# Altium integrated library Inverter_1KW.IntLib: 8 symbols
Pins are listed as number, name and electrical type; pins without a type are passive.

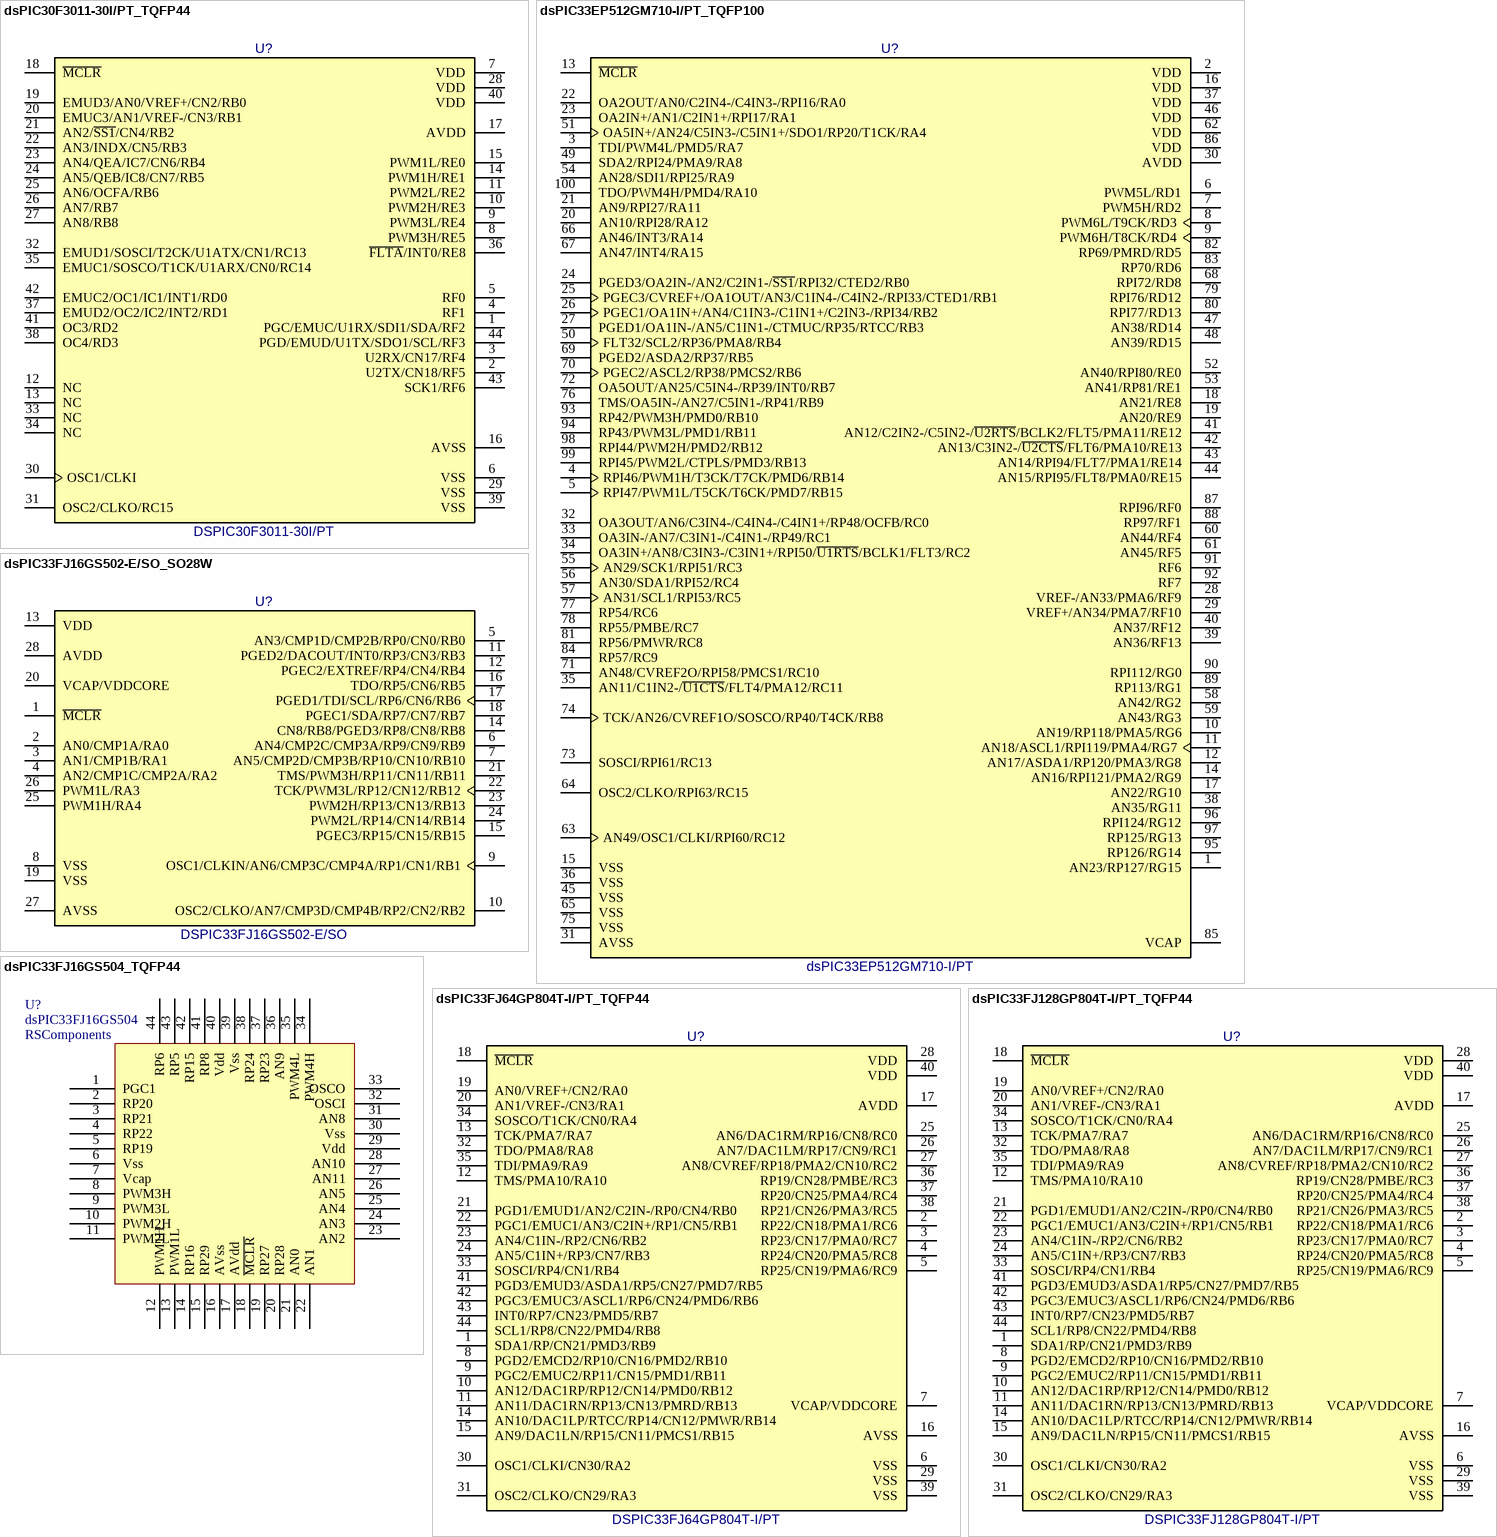
[diagram p0: symbols dsPIC30F3011-30I/PT_TQFP44 to dsPIC33FJ128GP804T-I/PT_TQFP44]

## dsPIC30F3011-30I/PT_TQFP44
designator U?, comment DSPIC30F3011-30I/PT
IC 16-bit Digital Signal Controller; Manufacturer: Microchip; Package: TQFP44-10x10; EDM-PN: *; Text2: *; Text1: *; Value: DSPIC30F3011-30I/PT; Reutech PN: *; Part Number: DSPIC30F3011-30I/PT
footprint TQFP44-10x10 (TQFP, 44-Leads, Body 10.0x10.0mm, Pitch 0.80mm, IPC Medium Density)
pins: 1 PGC/EMUC/U1RX/SDI1/SDA/RF2, 2 U2TX/CN18/RF5, 3 U2RX/CN17/RF4, 4 RF1, 5 RF0, 6 VSS (power), 7 VDD (power), 8 PWM3H/RE5, 9 PWM3L/RE4, 10 PWM2H/RE3, 11 PWM2L/RE2, 12 NC, 13 NC, 14 PWM1H/RE1, 15 PWM1L/RE0, 16 AVSS (power), 17 AVDD (power), 18 ~{MCLR}, 19 EMUD3/AN0/VREF+/CN2/RB0, 20 EMUC3/AN1/VREF-/CN3/RB1, 21 AN2/~{SS1}/CN4/RB2, 22 AN3/INDX/CN5/RB3, 23 AN4/QEA/IC7/CN6/RB4, 24 AN5/QEB/IC8/CN7/RB5, 25 AN6/OCFA/RB6, 26 AN7/RB7, 27 AN8/RB8, 28 VDD (power), 29 VSS (power), 30 OSC1/CLKI, 31 OSC2/CLKO/RC15, 32 EMUD1/SOSCI/T2CK/U1ATX/CN1/RC13, 33 NC, 34 NC, 35 EMUC1/SOSCO/T1CK/U1ARX/CN0/RC14, 36 ~{FLTA}/INT0/RE8, 37 EMUD2/OC2/IC2/INT2/RD1, 38 OC4/RD3, 39 VSS (power), 40 VDD (power), 41 OC3/RD2, 42 EMUC2/OC1/IC1/INT1/RD0, 43 SCK1/RF6, 44 PGD/EMUD/U1TX/SDO1/SCL/RF3

## dsPIC33EP512GM710-I/PT_TQFP100
designator U?, comment dsPIC33EP512GM710-I/PT
IC Microcontroller 32-Bit; Manufacturer: Microchip; Package: TQFP100-12x12; EDM-PN: *; Text2: *; Text1: *; Value: dsPIC33EP512GM710-I/PT; Reutech PN: *; Part Number: dsPIC33EP512GM710-I/PT
footprint TQFP100-12x12 (TQFP100 12.0x12.0mm)
pins: 1 AN23/RP127/RG15, 2 VDD (power) "Positive supply for peripheral logic and I/O pins.", 3 TDI/PWM4L/PMD5/RA7, 4 RPI46/PWM1H/T3CK/T7CK/PMD6/RB14, 5 RPI47/PWM1L/T5CK/T6CK/PMD7/RB15, 6 PWM5L/RD1, 7 PWM5H/RD2, 8 PWM6L/T9CK/RD3, 9 PWM6H/T8CK/RD4, 10 AN19/RP118/PMA5/RG6, 11 AN18/ASCL1/RPI119/PMA4/RG7, 12 AN17/ASDA1/RP120/PMA3/RG8, 13 ~{MCLR} "Master Clear (Reset) input. This pin is an active-low Reset to the device.", 14 AN16/RPI121/PMA2/RG9, 15 VSS (power) "Ground reference for logic and I/O pins.", 16 VDD (power) "Positive supply for peripheral logic and I/O pins.", 17 AN22/RG10, 18 AN21/RE8, 19 AN20/RE9, 20 AN10/RPI28/RA12, 21 AN9/RPI27/RA11, 22 OA2OUT/AN0/C2IN4-/C4IN3-/RPI16/RA0, 23 OA2IN+/AN1/C2IN1+/RPI17/RA1, 24 PGED3/OA2IN-/AN2/C2IN1-/~{SS1}/RPI32/CTED2/RB0, 25 PGEC3/CVREF+/OA1OUT/AN3/C1IN4-/C4IN2-/RPI33/CTED1/RB1, 26 PGEC1/OA1IN+/AN4/C1IN3-/C1IN1+/C2IN3-/RPI34/RB2, 27 PGED1/OA1IN-/AN5/C1IN1-/CTMUC/RP35/RTCC/RB3, 28 VREF-/AN33/PMA6/RF9, 29 VREF+/AN34/PMA7/RF10, 30 AVDD (power) "Positive supply for analog modules. This pin must be connected at all times.", 31 AVSS (power) "Ground reference for analog modules.", 32 OA3OUT/AN6/C3IN4-/C4IN4-/C4IN1+/RP48/OCFB/RC0, 33 OA3IN-/AN7/C3IN1-/C4IN1-/RP49/RC1, 34 OA3IN+/AN8/C3IN3-/C3IN1+/RPI50/~{U1RTS}/BCLK1/FLT3/RC2, 35 AN11/C1IN2-/~{U1CTS}/FLT4/PMA12/RC11, 36 VSS (power) "Ground reference for logic and I/O pins.", 37 VDD (power) "Positive supply for peripheral logic and I/O pins.", 38 AN35/RG11, 39 AN36/RF13, 40 AN37/RF12, 41 AN12/C2IN2-/C5IN2-/~{U2RTS}/BCLK2/FLT5/PMA11/RE12, 42 AN13/C3IN2-/~{U2CTS}/FLT6/PMA10/RE13, 43 AN14/RPI94/FLT7/PMA1/RE14, 44 AN15/RPI95/FLT8/PMA0/RE15, 45 VSS (power) "Ground reference for logic and I/O pins.", 46 VDD (power) "Positive supply for peripheral logic and I/O pins.", 47 AN38/RD14, 48 AN39/RD15, 49 SDA2/RPI24/PMA9/RA8, 50 FLT32/SCL2/RP36/PMA8/RB4, 51 OA5IN+/AN24/C5IN3-/C5IN1+/SDO1/RP20/T1CK/RA4, 52 AN40/RPI80/RE0, 53 AN41/RP81/RE1, 54 AN28/SDI1/RPI25/RA9, 55 AN29/SCK1/RPI51/RC3, 56 AN30/SDA1/RPI52/RC4, 57 AN31/SCL1/RPI53/RC5, 58 AN42/RG2, 59 AN43/RG3, 60 AN44/RF4, 61 AN45/RF5, 62 VDD (power) "Positive supply for peripheral logic and I/O pins.", 63 AN49/OSC1/CLKI/RPI60/RC12, 64 OSC2/CLKO/RPI63/RC15, 65 VSS (power) "Ground reference for logic and I/O pins.", 66 AN46/INT3/RA14, 67 AN47/INT4/RA15, 68 RPI72/RD8, 69 PGED2/ASDA2/RP37/RB5, 70 PGEC2/ASCL2/RP38/PMCS2/RB6, 71 AN48/CVREF2O/RPI58/PMCS1/RC10, 72 OA5OUT/AN25/C5IN4-/RP39/INT0/RB7, 73 SOSCI/RPI61/RC13, 74 TCK/AN26/CVREF1O/SOSCO/RP40/T4CK/RB8, 75 VSS (power) "Ground reference for logic and I/O pins.", 76 TMS/OA5IN-/AN27/C5IN1-/RP41/RB9, 77 RP54/RC6, 78 RP55/PMBE/RC7, 79 RPI76/RD12, 80 RPI77/RD13, 81 RP56/PMWR/RC8, 82 RP69/PMRD/RD5, 83 RP70/RD6, 84 RP57/RC9, 85 VCAP "CPU logic filter capacitor connection.", 86 VDD (power) "Positive supply for peripheral logic and I/O pins.", 87 RPI96/RF0, 88 RP97/RF1, 89 RP113/RG1, 90 RPI112/RG0, 91 RF6 "PORTF is a bidirectional I/O port.", 92 RF7 "PORTF is a bidirectional I/O port.", 93 RP42/PWM3H/PMD0/RB10, 94 RP43/PWM3L/PMD1/RB11, 95 RP126/RG14, 96 RPI124/RG12, 97 RP125/RG13, 98 RPI44/PWM2H/PMD2/RB12, 99 RPI45/PWM2L/CTPLS/PMD3/RB13, 100 TDO/PWM4H/PMD4/RA10

## dsPIC33FJ16GS502-E/SO_SO28W
designator U?, comment DSPIC33FJ16GS502-E/SO
IC 16-bit Digital Signal Controller; Manufacturer: Microchip; Package: SO28W; EDM-PN: *; Text2: *; Text1: *; Value: DSPIC33FJ16GS502-E/SO; Reutech PN: *; Part Number: DSPIC33FJ16GS502-E/SO
footprint SO28W (SO28 7.47x17.87mm)
pins: 1 ~{MCLR}, 2 AN0/CMP1A/RA0, 3 AN1/CMP1B/RA1, 4 AN2/CMP1C/CMP2A/RA2, 5 AN3/CMP1D/CMP2B/RP0/CN0/RB0, 6 AN4/CMP2C/CMP3A/RP9/CN9/RB9, 7 AN5/CMP2D/CMP3B/RP10/CN10/RB10, 8 VSS (power), 9 OSC1/CLKIN/AN6/CMP3C/CMP4A/RP1/CN1/RB1, 10 OSC2/CLKO/AN7/CMP3D/CMP4B/RP2/CN2/RB2, 11 PGED2/DACOUT/INT0/RP3/CN3/RB3, 12 PGEC2/EXTREF/RP4/CN4/RB4, 13 VDD (power), 14 CN8/RB8/PGED3/RP8/CN8/RB8, 15 PGEC3/RP15/CN15/RB15, 16 TDO/RP5/CN6/RB5, 17 PGED1/TDI/SCL/RP6/CN6/RB6, 18 PGEC1/SDA/RP7/CN7/RB7, 19 VSS (power), 20 VCAP/VDDCORE (power), 21 TMS/PWM3H/RP11/CN11/RB11, 22 TCK/PWM3L/RP12/CN12/RB12, 23 PWM2H/RP13/CN13/RB13, 24 PWM2L/RP14/CN14/RB14, 25 PWM1H/RA4, 26 PWM1L/RA3, 27 AVSS (power), 28 AVDD (power)

## dsPIC33FJ16GS504_TQFP44
designator U?, comment dsPIC33FJ16GS504  Supplier 1: RSComponents
dsPIC series Microcontroller IC 16-Bit 50 MIPs 16KB (16K x 8) FLASH 44-TQFP (10x10); Supplier Part Number 1: 6669674
footprint TQFP44-10x10 (TQFP, 44-Leads, Body 10.0x10.0mm, Pitch 0.80mm, IPC Medium Density)
pins: 1 PGC1, 2 RP20, 3 RP21, 4 RP22, 5 RP19, 6 Vss, 7 Vcap, 8 PWM3H, 9 PWM3L, 10 PWM2H, 11 PWM2L, 12 PWM1H, 13 PWM1L, 14 RP16, 15 RP29, 16 AVss, 17 AVdd, 18 ~{MCLR}, 19 RP27, 20 RP28, 21 AN0, 22 AN1, 23 AN2, 24 AN3, 25 AN4, 26 AN5, 27 AN11, 28 AN10, 29 Vdd, 30 Vss, 31 AN8, 32 OSCI, 33 OSCO, 34 PWM4H, 35 PWM4L, 36 AN9, 37 RP23, 38 RP24, 39 Vss, 40 Vdd, 41 RP8, 42 RP15, 43 RP5, 44 RP6

## dsPIC33FJ64GP804T-I/PT_TQFP44
designator U?, comment DSPIC33FJ64GP804T-I/PT
IC 16-bit Digital Signal Controller; Manufacturer: Microchip; Package: TQFP44-10x10; EDM-PN: *; Text2: *; Text1: *; Value: DSPIC33FJ64GP804T-I/PT; Reutech PN: *; Part Number: DSPIC33FJ64GP804T-I/PT
footprint TQFP44-10x10 (TQFP, 44-Leads, Body 10.0x10.0mm, Pitch 0.80mm, IPC Medium Density)
pins: 1 SDA1/RP/CN21/PMD3/RB9, 2 RP22/CN18/PMA1/RC6, 3 RP23/CN17/PMA0/RC7, 4 RP24/CN20/PMA5/RC8, 5 RP25/CN19/PMA6/RC9, 6 VSS (power), 7 VCAP/VDDCORE (power), 8 PGD2/EMCD2/RP10/CN16/PMD2/RB10, 9 PGC2/EMUC2/RP11/CN15/PMD1/RB11, 10 AN12/DAC1RP/RP12/CN14/PMD0/RB12, 11 AN11/DAC1RN/RP13/CN13/PMRD/RB13, 12 TMS/PMA10/RA10, 13 TCK/PMA7/RA7, 14 AN10/DAC1LP/RTCC/RP14/CN12/PMWR/RB14, 15 AN9/DAC1LN/RP15/CN11/PMCS1/RB15, 16 AVSS (power), 17 AVDD (power), 18 ~{MCLR}, 19 AN0/VREF+/CN2/RA0, 20 AN1/VREF-/CN3/RA1, 21 PGD1/EMUD1/AN2/C2IN-/RP0/CN4/RB0, 22 PGC1/EMUC1/AN3/C2IN+/RP1/CN5/RB1, 23 AN4/C1IN-/RP2/CN6/RB2, 24 AN5/C1IN+/RP3/CN7/RB3, 25 AN6/DAC1RM/RP16/CN8/RC0, 26 AN7/DAC1LM/RP17/CN9/RC1, 27 AN8/CVREF/RP18/PMA2/CN10/RC2, 28 VDD (power), 29 VSS (power), 30 OSC1/CLKI/CN30/RA2, 31 OSC2/CLKO/CN29/RA3, 32 TDO/PMA8/RA8, 33 SOSCI/RP4/CN1/RB4, 34 SOSCO/T1CK/CN0/RA4, 35 TDI/PMA9/RA9, 36 RP19/CN28/PMBE/RC3, 37 RP20/CN25/PMA4/RC4, 38 RP21/CN26/PMA3/RC5, 39 VSS (power), 40 VDD (power), 41 PGD3/EMUD3/ASDA1/RP5/CN27/PMD7/RB5, 42 PGC3/EMUC3/ASCL1/RP6/CN24/PMD6/RB6, 43 INT0/RP7/CN23/PMD5/RB7, 44 SCL1/RP8/CN22/PMD4/RB8

## dsPIC33FJ128GP804T-I/PT_TQFP44
designator U?, comment DSPIC33FJ128GP804T-I/PT
IC 16-bit Digital Signal Controller; Manufacturer: Microchip; Package: TQFP44-10x10; EDM-PN: *; Text2: *; Text1: *; Value: DSPIC33FJ128GP804T-I/PT; Reutech PN: *; Part Number: DSPIC33FJ128GP804T-I/PT
footprint TQFP44-10x10 (TQFP, 44-Leads, Body 10.0x10.0mm, Pitch 0.80mm, IPC Medium Density)
pins: 1 SDA1/RP/CN21/PMD3/RB9, 2 RP22/CN18/PMA1/RC6, 3 RP23/CN17/PMA0/RC7, 4 RP24/CN20/PMA5/RC8, 5 RP25/CN19/PMA6/RC9, 6 VSS (power), 7 VCAP/VDDCORE (power), 8 PGD2/EMCD2/RP10/CN16/PMD2/RB10, 9 PGC2/EMUC2/RP11/CN15/PMD1/RB11, 10 AN12/DAC1RP/RP12/CN14/PMD0/RB12, 11 AN11/DAC1RN/RP13/CN13/PMRD/RB13, 12 TMS/PMA10/RA10, 13 TCK/PMA7/RA7, 14 AN10/DAC1LP/RTCC/RP14/CN12/PMWR/RB14, 15 AN9/DAC1LN/RP15/CN11/PMCS1/RB15, 16 AVSS (power), 17 AVDD (power), 18 ~{MCLR}, 19 AN0/VREF+/CN2/RA0, 20 AN1/VREF-/CN3/RA1, 21 PGD1/EMUD1/AN2/C2IN-/RP0/CN4/RB0, 22 PGC1/EMUC1/AN3/C2IN+/RP1/CN5/RB1, 23 AN4/C1IN-/RP2/CN6/RB2, 24 AN5/C1IN+/RP3/CN7/RB3, 25 AN6/DAC1RM/RP16/CN8/RC0, 26 AN7/DAC1LM/RP17/CN9/RC1, 27 AN8/CVREF/RP18/PMA2/CN10/RC2, 28 VDD (power), 29 VSS (power), 30 OSC1/CLKI/CN30/RA2, 31 OSC2/CLKO/CN29/RA3, 32 TDO/PMA8/RA8, 33 SOSCI/RP4/CN1/RB4, 34 SOSCO/T1CK/CN0/RA4, 35 TDI/PMA9/RA9, 36 RP19/CN28/PMBE/RC3, 37 RP20/CN25/PMA4/RC4, 38 RP21/CN26/PMA3/RC5, 39 VSS (power), 40 VDD (power), 41 PGD3/EMUD3/ASDA1/RP5/CN27/PMD7/RB5, 42 PGC3/EMUC3/ASCL1/RP6/CN24/PMD6/RB6, 43 INT0/RP7/CN23/PMD5/RB7, 44 SCL1/RP8/CN22/PMD4/RB8

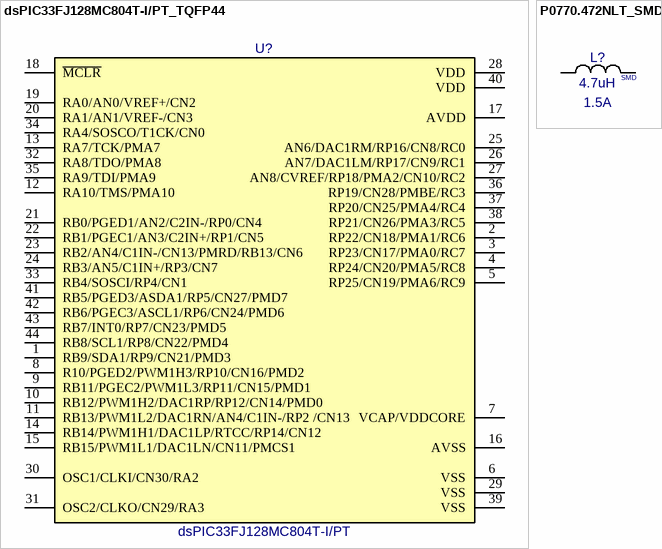
[diagram p1: symbols dsPIC33FJ128MC804T-I/PT_TQFP44 to P0770.472NLT_SMD]

## dsPIC33FJ128MC804T-I/PT_TQFP44
designator U?, comment dsPIC33FJ128MC804T-I/PT
IC 16-bit Digital Signal Controller; Manufacturer: Microchip; Package: TQFP44-10x10; EDM-PN: *; Text2: *; Text1: *; Value: dsPIC33FJ128MC804T-I/PT; Reutech PN: *; Part Number: dsPIC33FJ128MC804T-I/PT
footprint TQFP44-10x10 (TQFP, 44-Leads, Body 10.0x10.0mm, Pitch 0.80mm, IPC Medium Density)
pins: 1 RB9/SDA1/RP9/CN21/PMD3, 2 RP22/CN18/PMA1/RC6, 3 RP23/CN17/PMA0/RC7, 4 RP24/CN20/PMA5/RC8, 5 RP25/CN19/PMA6/RC9, 6 VSS (power), 7 VCAP/VDDCORE (power), 8 R10/PGED2/PWM1H3/RP10/CN16/PMD2, 9 RB11/PGEC2/PWM1L3/RP11/CN15/PMD1, 10 RB12/PWM1H2/DAC1RP/RP12/CN14/PMD0, 11 RB13/PWM1L2/DAC1RN/AN4/C1IN-/RP2 /CN13, 12 RA10/TMS/PMA10, 13 RA7/TCK/PMA7, 14 RB14/PWM1H1/DAC1LP/RTCC/RP14/CN12, 15 RB15/PWM1L1/DAC1LN/CN11/PMCS1, 16 AVSS (power), 17 AVDD (power), 18 ~{MCLR}, 19 RA0/AN0/VREF+/CN2, 20 RA1/AN1/VREF-/CN3, 21 RB0/PGED1/AN2/C2IN-/RP0/CN4, 22 RB1/PGEC1/AN3/C2IN+/RP1/CN5, 23 RB2/AN4/C1IN-/CN13/PMRD/RB13/CN6, 24 RB3/AN5/C1IN+/RP3/CN7, 25 AN6/DAC1RM/RP16/CN8/RC0, 26 AN7/DAC1LM/RP17/CN9/RC1, 27 AN8/CVREF/RP18/PMA2/CN10/RC2, 28 VDD (power), 29 VSS (power), 30 OSC1/CLKI/CN30/RA2, 31 OSC2/CLKO/CN29/RA3, 32 RA8/TDO/PMA8, 33 RB4/SOSCI/RP4/CN1, 34 RA4/SOSCO/T1CK/CN0, 35 RA9/TDI/PMA9, 36 RP19/CN28/PMBE/RC3, 37 RP20/CN25/PMA4/RC4, 38 RP21/CN26/PMA3/RC5, 39 VSS (power), 40 VDD (power), 41 RB5/PGED3/ASDA1/RP5/CN27/PMD7, 42 RB6/PGEC3/ASCL1/RP6/CN24/PMD6, 43 RB7/INT0/RP7/CN23/PMD5, 44 RB8/SCL1/RP8/CN22/PMD4

## P0770.472NLT_SMD
designator L?, comment value 4.7uH  Text2: 1.5A  Text1: SMD  (hidden comment: P0770.472NLT)
4.7uH Unshielded Wirewound Inductor 1.5A 90 mOhm; Manufacturer: Pulse Electronics; Part Number: P0770.472NLT; Package: SMD; EDM-PN: *; Tol: *; SAAB PN: *; DCE Part No: *
footprint P0770.472NLT_SMD (P0770.472NLT)
pins: 1, 2